# EAGLE library part HDRV_10_? (library pinheader)
Male pinheader 10 circuits
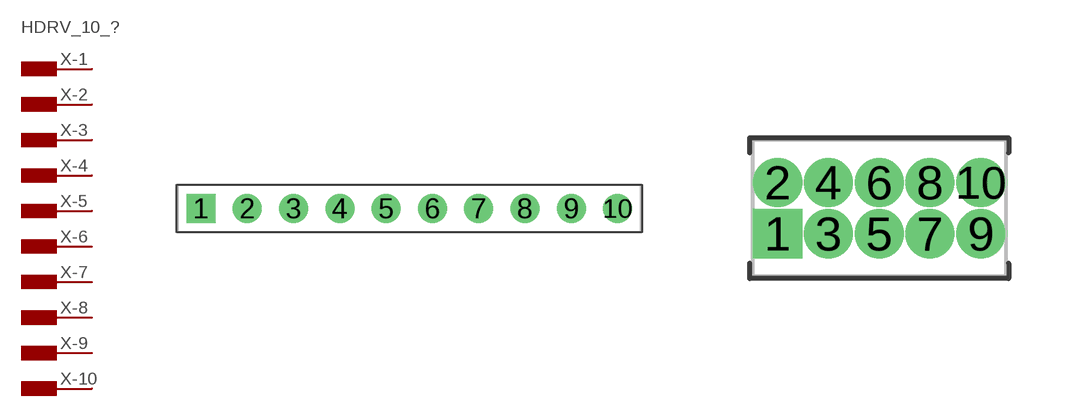
[diagram p1: symbol with the pads of HDRV10W64P254_10X1_2540X250H660RN; footprints HDRV10W64P254_10X1_2540X250H660RN, HDRV10W40P127_5X2_635X340H500RN]

Designator prefix X; gates -1=CONTACT_MALE -2=CONTACT_MALE -3=CONTACT_MALE -4=CONTACT_MALE -5=CONTACT_MALE -6=CONTACT_MALE -7=CONTACT_MALE -8=CONTACT_MALE -9=CONTACT_MALE -10=CONTACT_MALE G$1=VALUE

## HDRV_10_THT_R1P254 (HEIGHT: 6.6; IDF_FAMILYNAME: HDRV; IDF_PARTNUMBER: HDRV10W64P254_10X1_2540X250H660)  [HDRV10W64P254_10X1_2540X250H660RN]
1  -1:1
2  -2:1
3  -3:1
4  -4:1
5  -5:1
6  -6:1
7  -7:1
8  -8:1
9  -9:1
10  -10:1

## HDRV_10_THT_R2P127 (HEIGHT: 5; IDF_FAMILYNAME: HDRV; IDF_PARTNUMBER: HDRV10W40P127_5X2_635X340H500)  [HDRV10W40P127_5X2_635X340H500RN]
Pads as for HDRV10W64P254_10X1_2540X250H660RN

## Footprint HDRV10W64P254_10X1_2540X250H660RN (pad centres in mm)
Male, vertical header Nominal Material Condition Body (LxWxH): 25.40mm x 2.50mm x 6.60mm Lead (b): 0.64mm, Rectangular Pitch (d x e): 2.54mm x 2.54mm Number of Contacts (N):10 (10x1) IPC Component Parameters materialCondition | 1 | Nominal (Nominal Density) bodyType | 0 | Male contactShape | 0 | Rectangular ND | 10 NE | 1 indexScheme | 0 | Vertical first designatorScheme | 0 | Linear index, numeric designatorSymbols | ABCDEFGHIJKLMNOPQRSTUVWXYZ b | 0.640000 d | 2.540000 e | 2.540000 H | 6.600000 D | 25.400000 E | 2.500000 nameScheme | 0 | Standard manufacturerName | manufacturerPartNo | IPC Library Parameters fabTol | 0.050000 placeTol | 0.025000 padPlaceRoundOff | 0.010000 padSizeRoundOff | 0.010000 cornerRadius | 25.000000 cornerRadiusLimit | 0.250000 cornerRadiusRoundOff | 0.010000 thtPadSizeRoundOff | 0.010000 thtCourtyardExcess | 0.250000 thtCourtyardRound | 0.010000 thtHoleOverRoundLead | 0.200000 thtHoleOverRectangularLead | 0.150000 thtMinimumAnnularRing | 0.200000 thtPadToHoleRatio | 1.500000 courtyardLineWidth | 0.050000 legendLineWidth | 0.100000 | 0.120000 | 0.150000 legendClearance | 0.100000 | 0.120000 | 0.150000 legendFontHeight | 1.000000 | 1.200000 | 1.500000 legendFontRatio | 10.000000 legendRoundOff | 0.010000 componentFontHeight | 2.000000 componentLineWidth | 0.100000 componentRoundOff | 0.010000 Package generated by: tht_pinheader.ulp
drill 1.06 pad 1.59 square: 1 -11.43,0
drill 1.06 pad 1.59: 2 -8.89,0; 3 -6.35,0; 4 -3.81,0; 5 -1.27,0; 6 1.27,0; 7 3.81,0; 8 6.35,0; 9 8.89,0; 10 11.43,0

## Footprint HDRV10W40P127_5X2_635X340H500RN (pad centres in mm)
Male, vertical header Nominal Material Condition Body (LxWxH): 6.35mm x 3.40mm x 5.00mm Lead (b): 0.40mm, Rectangular Pitch (d x e): 1.27mm x 1.27mm Number of Contacts (N):10 (5x2) IPC Component Parameters materialCondition | 1 | Nominal (Nominal Density) bodyType | 0 | Male contactShape | 0 | Rectangular ND | 5 NE | 2 indexScheme | 0 | Vertical first designatorScheme | 0 | Linear index, numeric designatorSymbols | ABCDEFGHIJKLMNOPQRSTUVWXYZ b | 0.400000 d | 1.270000 e | 1.270000 H | 5.000000 D | 6.350000 E | 3.400000 nameScheme | 0 | Standard manufacturerName | manufacturerPartNo | IPC Library Parameters fabTol | 0.050000 placeTol | 0.025000 padPlaceRoundOff | 0.010000 padSizeRoundOff | 0.010000 cornerRadius | 25.000000 cornerRadiusLimit | 0.250000 cornerRadiusRoundOff | 0.010000 thtPadSizeRoundOff | 0.010000 thtCourtyardExcess | 0.250000 thtCourtyardRound | 0.010000 thtHoleOverRoundLead | 0.200000 thtHoleOverRectangularLead | 0.150000 thtMinimumAnnularRing | 0.200000 thtPadToHoleRatio | 1.500000 courtyardLineWidth | 0.050000 legendLineWidth | 0.100000 | 0.120000 | 0.150000 legendClearance | 0.100000 | 0.120000 | 0.150000 legendFontHeight | 1.000000 | 1.200000 | 1.500000 legendFontRatio | 10.000000 legendRoundOff | 0.010000 componentFontHeight | 2.000000 componentLineWidth | 0.100000 componentRoundOff | 0.010000 Package generated by: tht_pinheader.ulp
drill 0.72 pad 1.13 square: 1 -2.54,-0.64
drill 0.72 pad 1.13: 2 -2.54,0.64; 3 -1.27,-0.64; 4 -1.27,0.64; 5 0,-0.64; 6 0,0.64; 7 1.27,-0.64; 8 1.27,0.64; 9 2.54,-0.64; 10 2.54,0.64